# EAGLE library part BQ25071-Q1 (library dawidkulpa_dev)
LiFePO4, Single-Cell charger
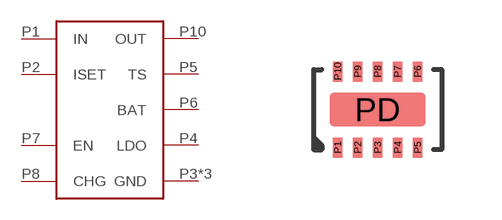
[diagram p19: symbol with the pads of WSON10; footprint WSON10]

Designator prefix -

## BQ25071-Q1  [WSON10]
P1  IN
P2  ISET
P3  GND
P4  LDO
P5  TS
P6  BAT
P7  EN
P8  CHG
P9  GND
P10  OUT
PD  GND

## Footprint WSON10 (pad centres in mm)
smd 0.25 x 0.5: P1 -1,-0.95; P2 -0.5,-0.95; P3 0,-0.95; P4 0.5,-0.95; P5 1,-0.95; P6 1,0.95; P7 0.5,0.95; P8 0,0.95; P9 -0.5,0.95; P10 -1,0.95
smd 2.4 x 0.84: PD 0,0